# EAGLE library part MODUL-SD (library ArdDisp)
http://www.ladyada.net/products/microsd/ 3.8.2012 desticka s konektorem pro SD kartu
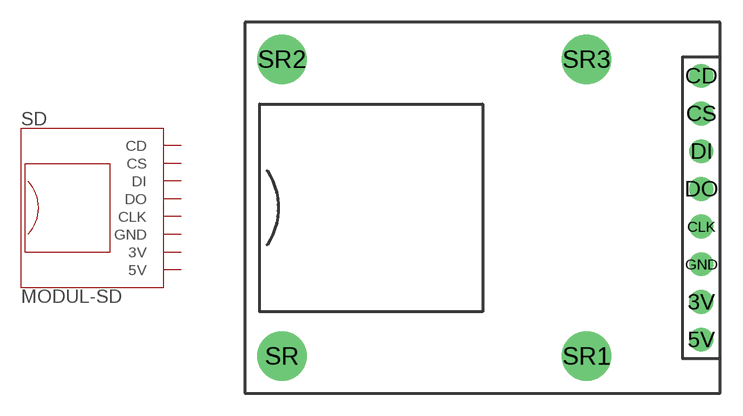
[diagram p11: symbol with the pads of MODUL-SD; footprint MODUL-SD]

Designator prefix SD

## MODUL-SD  [MODUL-SD]
3V  3V
5V  5V
CD  CD
CLK  CLK
CS  CS
DI  DI
DO  DO
GND  GND

## Footprint MODUL-SD (pad centres in mm)
drill 1 pad 1.6: 3V -1.27,-6.35; 5V -1.27,-8.89; CD -1.27,8.89; CLK -1.27,-1.27; CS -1.27,6.35; DI -1.27,3.81; DO -1.27,1.27; GND -1.27,-3.81
drill 2.3 pad 3.3: SR -29.5,-10; SR1 -9,-10; SR2 -29.5,10; SR3 -9,10